# EAGLE library part MIC5239 (library alvie)
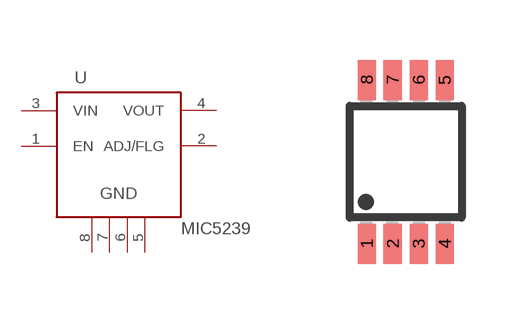
[diagram p50: symbol with the pads of MSOP8; footprint MSOP8]

Designator prefix -

## MIC5239YMM  [MSOP8]
1  EN  in
2  ADJ/FLG  pas
3  VIN  pwr
4  VOUT  pwr
5  GND  pwr
6  GND  pwr
7  GND  pwr
8  GND  pwr

## Footprint MSOP8 (pad centres in mm)
smd 0.45 x 1: 1 -0.975,-2.05; 2 -0.325,-2.05; 3 0.325,-2.05; 4 0.975,-2.05; 5 0.975,2.05; 6 0.325,2.05; 7 -0.325,2.05; 8 -0.975,2.05